# Altium schematic symbol library Custom_Component.SchLib: 280 symbols (part 1 of 2)
Pins are listed as number, name and electrical type; pins without a type are passive.

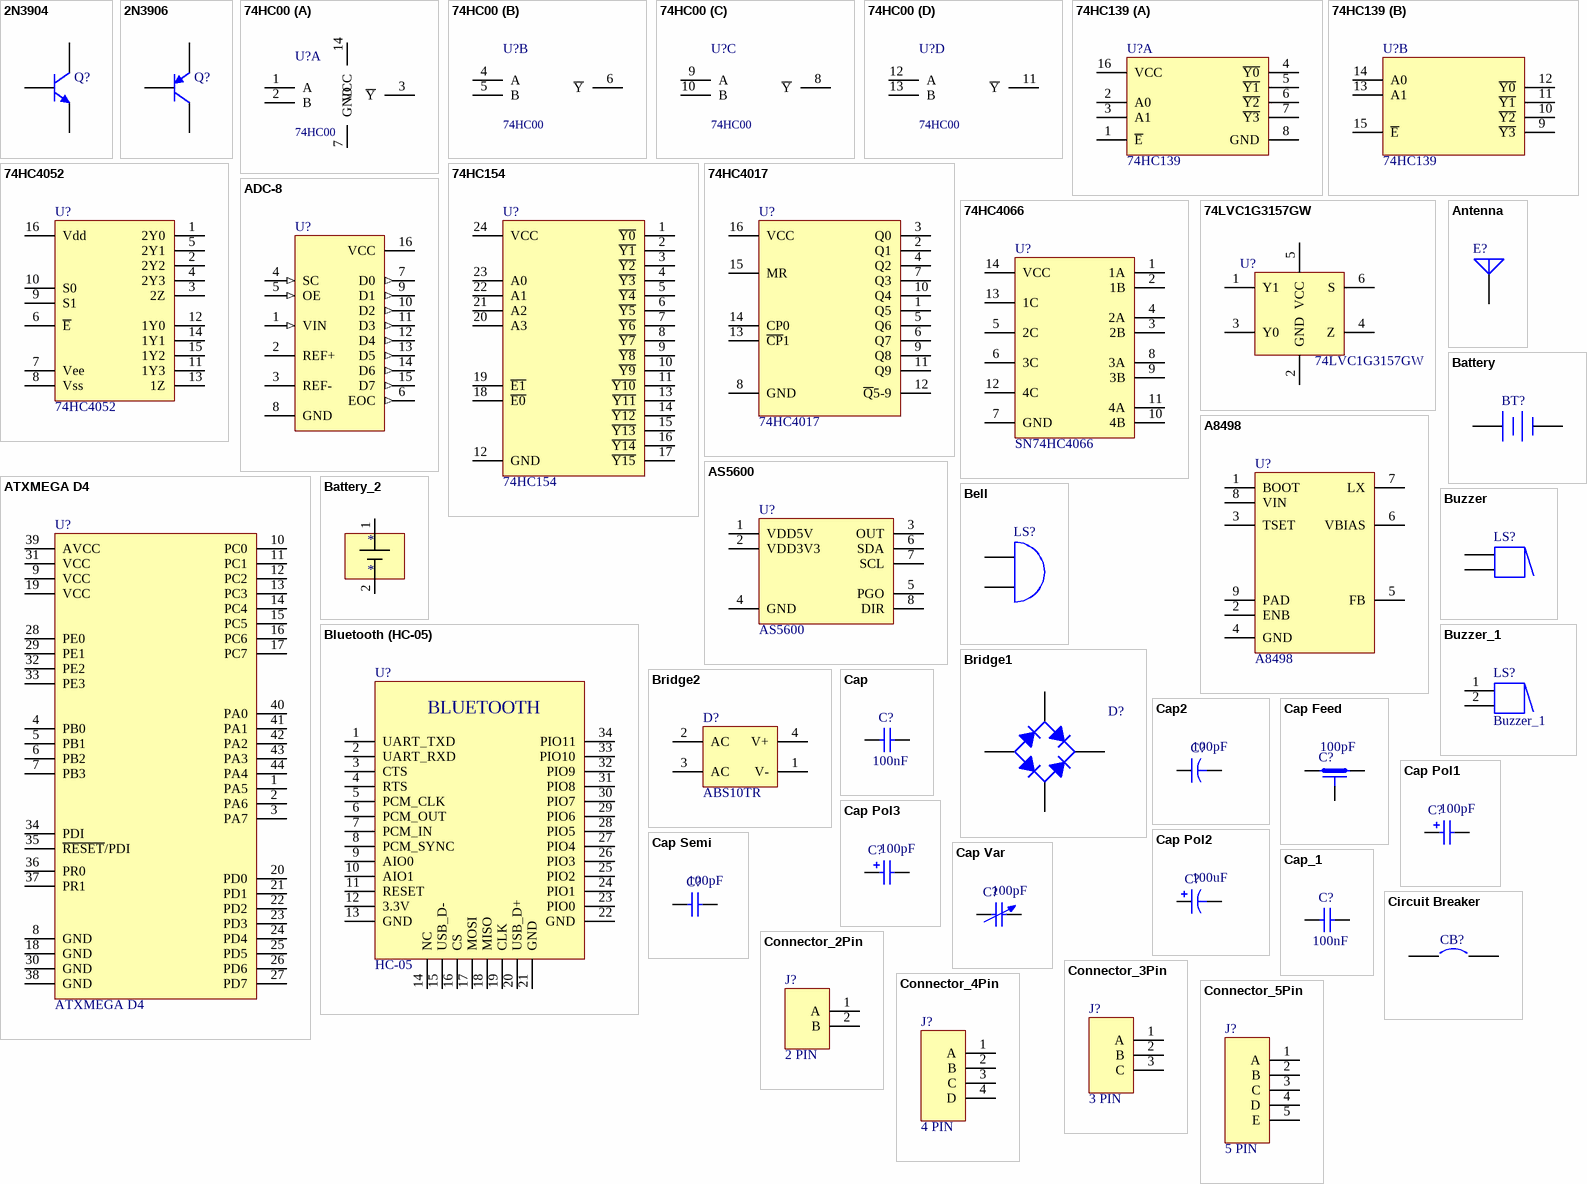
[diagram p0: symbols 2N3904 to Connector_5Pin]

## 2N3904
designator Q?
NPN General Purpose Amplifier; PackageReference: TO-92A; PackageDescription: TO, Flat Index; 3 In-Line, Axial Leads; Body Dia. 4.5mm; Leads 0.51 x 0.48 mm (max)
footprint TO-92A (TO, Flat Index; 3 In-Line, Axial Leads; Body Dia. 4.5mm; Leads 0.51 x 0.48 mm (max))
simulation model 2N3904 (NPN)
signal-integrity model 2N3904
footprint SOT23_N (SOT23, 3-Leads, Body 2.9x1.3mm, Pitch 0.95mm, Lead Span 2.3mm - Reverse Pinning, IPC Medium Density)
pins: 1 C, 2 E, 3 B

## 2N3906
designator Q?
PNP General Purpose Amplifier; PackageReference: TO-92A; PackageDescription: TO, Flat Index; 3 In-Line, Axial Leads; Body Dia. 4.5mm; Leads 0.51 x 0.48 mm (max)
footprint TO-92A (TO, Flat Index; 3 In-Line, Axial Leads; Body Dia. 4.5mm; Leads 0.51 x 0.48 mm (max))
simulation model 2N3906 (PNP)
signal-integrity model 2N3906
pins: 1 E, 2 B, 3 C

## 74HC00
designator U?
QUADRUPLE 2-INPUT POSITIVE-AND GATES
footprint SOIC14 (SOIC, 14-Leads, Body 8.75x4.0mm, Pitch 1.27mm, IPC Low Density)
part A pins: 1 A, 2 B, 3 ~{Y}, 7 GND, 14 VCC
part B pins: 4 A, 5 B, 6 ~{Y}
part C pins: 8 ~{Y}, 9 A, 10 B
part D pins: 11 ~{Y}, 12 A, 13 B

## 74HC139
designator U?
Dual 2-to-4 Decoder
footprint SOIC16 (SOIC, 16-Leads, Body 9.9x9.4mm, Pitch 1.27mm, IPC Low Density)
part A pins: 1 ~{E}, 2 A0, 3 A1, 4 ~{Y0}, 5 ~{Y1}, 6 ~{Y2}, 7 ~{Y3}, 8 GND, 16 VCC
part B pins: 9 ~{Y3}, 10 ~{Y2}, 11 ~{Y1}, 12 ~{Y0}, 13 A1, 14 A0, 15 ~{E}

## 74HC154
designator U?
4-to-16 Decoder
footprint SOIC24 (SOIC, 24-Leads, Pitch 1.27mm)
pins: 1 ~{Y0}, 2 ~{Y1}, 3 ~{Y2}, 4 ~{Y3}, 5 ~{Y4}, 6 ~{Y5}, 7 ~{Y6}, 8 ~{Y7}, 9 ~{Y8}, 10 ~{Y9}, 11 ~{Y10}, 12 GND, 13 ~{Y11}, 14 ~{Y12}, 15 ~{Y13}, 16 ~{Y14}, 17 ~{Y15}, 18 ~{E0}, 19 ~{E1}, 20 A3, 21 A2, 22 A1, 23 A0, 24 VCC

## 74HC4017
designator U?
Johnson decade counter
pins: 1 Q5, 2 Q1, 3 Q0, 4 Q2, 5 Q6, 6 Q7, 7 Q3, 8 GND, 9 Q8, 10 Q4, 11 Q9, 12 ~{Q}5-9, 13 ~{CP}1, 14 CP0, 15 MR, 16 VCC

## 74HC4052
designator U?
Analog switch
footprint TSSOP_16 (TSSOP_14)
pins: 1 2Y0, 2 2Y2, 3 2Z, 4 2Y3, 5 2Y1, 6 ~{E}, 7 Vee, 8 Vss, 9 S1, 10 S0, 11 1Y3, 12 1Y0, 13 1Z, 14 1Y1, 15 1Y2, 16 Vdd

## 74HC4066
designator U?, comment SN74HC4066
ComponentLink1Description: Digikey; ComponentLink1URL: https://www.digikey.ca/product-detail/en/texas-instruments/SN74HC4066PWR/296-8330-1-ND/376709; ComponentLink2Description: Datasheet; ComponentLink2URL: http://www.ti.com/lit/ds/symlink/sn74hc4066.pdf
footprint TSSOP_14
pins: 1 1A, 2 1B, 3 2B, 4 2A, 5 2C, 6 3C, 7 GND, 8 3A, 9 3B, 10 4B, 11 4A, 12 4C, 13 1C, 14 VCC

## 74LVC1G3157GW
designator U?
ComponentLink1Description: Digikey; ComponentLink1URL: https://www.digikey.ca/product-detail/en/nexperia-usa-inc/74LVC1G3157GW125/1727-6073-1-ND/2753909; ComponentLink2Description: Datasheet; ComponentLink2URL: https://assets.nexperia.com/documents/data-sheet/74LVC1G3157.pdf; Digikey Part Number: 1727-6073-1-ND
footprint SOT-363-6 (0.65 pitch SOT363-6)
pins: 1 Y1, 2 GND, 3 Y0, 4 Z, 5 VCC, 6 S

## A8498
designator U?
Step-down; ComponentLink1Description: Digikey; ComponentLink1URL: https://www.digikey.ca/product-detail/en/allegro-microsystems-llc/A8498SLJTR-T/620-1160-1-ND/1121721
footprint SOIC-8 (SOIC, 8-Leads, Body 4.9x3.9mm, Pitch 1.27mm, IPC Medium Density)
pins: 1 BOOT, 2 ENB, 3 TSET, 4 GND, 5 FB, 6 VBIAS, 7 LX, 8 VIN, 9 PAD

## ADC-8
designator U?
Generic 8-Bit A/D Converter; PackageReference: SOT403-1; PackageDescription: 16-Pin Thin Small Outline Package 0.65 mm Pitch
footprint SOT403-1_N (TSOP, 16-Leads, Body 5x4.4mm, Pitch 0.65mm, IPC Medium Density)
footprint SOT403-1_L (TSOP, 16-Leads, Body 5x4.4mm, Pitch 0.65mm, IPC High Density)
footprint SOT403-1_M (TSOP, 16-Leads, Body 5x4.4mm, Pitch 0.65mm, IPC Low Density)
simulation model ADC8 (SIMCODE)
pins: 1 VIN (in), 2 REF+, 3 REF-, 4 SC (in), 5 OE (in), 6 EOC (out), 7 D0 (out), 8 GND (power), 9 D1 (out), 10 D2 (out), 11 D3 (out), 12 D4 (out), 13 D5 (out), 14 D6 (out), 15 D7 (out), 16 VCC (power)

## Antenna
designator E?
Generic Antenna; PackageReference: PIN1
footprint PIN1 (Generic Antenna; 1 Lead)
pins: 1 A

## AS5600
designator U?
12-Bit Programmable Contactless / Potentiometer; ComponentLink1Description: Mouser; ComponentLink1URL: https://www.mouser.ca/ProductDetail/ams/AS5600-ASOT?qs=sGAEpiMZZMvhQj7WZhFIACpL9oTQ3HAxNjqXH1F5nKObiTda5GUQ9A%3d%3d; ComponentLink2Description: Datasheet; ComponentLink2URL: https://www.mouser.ca/datasheet/2/588/AS5600_DS000365_3-00-1100751.pdf
footprint SO8_N (SOIC, 8-Leads, Body 4.9x3.9mm, Pitch 1.27mm, IPC Medium Density)
pins: 1 VDD5V, 2 VDD3V3, 3 OUT, 4 GND, 5 PGO, 6 SDA, 7 SCL, 8 DIR

## ATXMEGA D4
designator U?
footprint TQFP-44-Lead (64-Lead Plastic Thin Quad Flatpack (PT)-10x10x1 mm Body, 2.00 mm Footprint [TQFP])
pins: 1 PA5, 2 PA6, 3 PA7, 4 PB0, 5 PB1, 6 PB2, 7 PB3, 8 GND, 9 VCC, 10 PC0, 11 PC1, 12 PC2, 13 PC3, 14 PC4, 15 PC5, 16 PC6, 17 PC7, 18 GND, 19 VCC, 20 PD0, 21 PD1, 22 PD2, 23 PD3, 24 PD4, 25 PD5, 26 PD6, 27 PD7, 28 PE0, 29 PE1, 30 GND, 31 VCC, 32 PE2, 33 PE3, 34 PDI, 35 ~{RESET}/PDI, 36 PR0, 37 PR1, 38 GND, 39 AVCC, 40 PA0, 41 PA1, 42 PA2, 43 PA3, 44 PA4

## Battery
designator BT?
Multicell Battery; PackageReference: BAT-2; PackageDescription: Battery; 2 Leads
footprint BAT-2 (Battery; 2 Leads)
pins: 1 +, 2 -

## Battery_2
designator *
footprint BATTERY (Battery; 2 Leads)
pins: 1 VBAT, 2 GND

## Bell
designator LS?
Electrical Bell; PackageReference: PIN2
footprint PIN2 (Electrical Bell; 2 Leads)
pins: 1 A, 2 B

## Bluetooth (HC-05)
designator U?, comment HC-05
footprint HC-05 (BLUETOOTH)
pins: 1 UART_TXD, 2 UART_RXD, 3 CTS, 4 RTS, 5 PCM_CLK, 6 PCM_OUT, 7 PCM_IN, 8 PCM_SYNC, 9 AIO0, 10 AIO1, 11 RESET, 12 3.3V (power), 13 GND (power), 14 NC, 15 USB_D-, 16 CS, 17 MOSI, 18 MISO, 19 CLK, 20 USB_D+, 21 GND (power), 22 GND (power), 23 PIO0, 24 PIO1, 25 PIO2, 26 PIO3, 27 PIO4, 28 PIO5, 29 PIO6, 30 PIO7, 31 PIO8, 32 PIO9, 33 PIO10, 34 PIO11
text: BLUETOOTH

## Bridge1
designator D?
Full Wave Diode Bridge; PackageReference: D-38; PackageDescription: Bridge Rectifier; 4 Terminals; Body 9.4 x 9.4 mm (typ); Pitch 5.08 mm
footprint D-38 (Bridge Rectifier; 4 Terminals; Body 9.4 x 9.4 mm (typ); Pitch 5.08 mm)
simulation model BRIDGE (Spice Subcircuit)
pins: 1 K, 2 C, 3 A, 4 C

## Bridge2
designator D?, comment ABS10TR
Diode Bridge; PackageReference: D-46_6A; PackageDescription: Bridge Rectifier; 4 Terminals; Body 16.8 x 16.8 mm (typ); Pitch 10.67 mm; ComponentLink1Description: ABS10TR - Digikey; ComponentLink1URL: https://www.digikey.ca/product-detail/en/smc-diode-solutions/ABS10TR/1655-1809-1-ND/7244837
simulation model BRIDGE (Spice Subcircuit)
footprint SOPA-4 (4-SMD Gull wing)
pins: 1 V-, 2 AC, 3 AC, 4 V+

## Buzzer
designator LS?
Magnetic Transducer Buzzer; PackageReference: ABSM-1574; PackageDescription: Magnetic Transducer Buzzer
footprint ABSM-1574 (Magnetic Transducer Buzzer)
pins: 1, 2

## Buzzer_1
designator LS?
Magnetic Transducer Buzzer; PackageReference: ABSM-1574; PackageDescription: Magnetic Transducer Buzzer
footprint BUZZER_6.6mm (Magnetic Transducer Buzzer)
footprint BUZZER_9mm (Magnetic Transducer Buzzer)
pins: 1, 2

## Cap
designator C?, comment 100nF
Capacitor; Value: 100pF; PackageReference: RAD-0.3; PackageDescription: Radial Cap, Thru-Hole; 2 Leads; 0.3 in Pin Spacing
footprint RAD-0.3 (Radial Cap, Thru-Hole; 2 Leads; 0.3 in Pin Spacing)
simulation model CAP (Capacitor)
signal-integrity model Cap
footprint C0603 (Chip Capacitor, Body 1.6x0.8mm, IPC High Density)
footprint C1206 (Chip Capacitor, Body 3.2x1.6mm, IPC High Density)
footprint C1210 (Chip Capacitor, Body 3.2x2.5mm, IPC High Density)
footprint C0805 (Chip Capacitor, Body 2.0x1.3mm, IPC High Density)
pins: 1, 2

## Cap2
designator C?  value 100pF
Capacitor; PackageReference: CAPR5-4X5; PackageDescription: Capacitor; 2 Leads
footprint CAPR5-4X5 (Capacitor; 2 Leads)
simulation model CAP (Capacitor)
signal-integrity model Cap
pins: 1, 2

## Cap Feed
designator C?  value 100pF
Feed-Through Capacitor; Note: Commonly used for bypassing high-frequency currents to chassis; PackageReference: VR4; PackageDescription: Variable Resistor, Thru-Hole; 3 Leads
footprint VR4 (Thru-Hole; 3 Leads)
signal-integrity model Cap Feed
pins: 1, 2, 3

## Cap Pol1
designator C?  value 100pF
Polarized Capacitor (Radial); PackageReference: RB7.6-15; PackageDescription: Polarized Capacitor (Radial); 2 Leads
footprint RB7.6-15 (Polarized Capacitor (Radial); 2 Leads)
simulation model CAP (Capacitor)
signal-integrity model Cap Pol
pins: 1, 2
1 alternate drawing of the same symbol

## Cap Pol2
designator C?  value 100uF
Polarized Capacitor (Axial); PackageReference: POLAR0.8; PackageDescription: Polarized Capacitor; 2 Leads
footprint POLAR0.8 (Polarized Capacitor; 2 Leads)
simulation model CAP (Capacitor)
signal-integrity model Cap Pol
footprint SMD_RAD-7.7*6.3 (Radial Cap, SMD; 2 Leads;)
footprint CAP_5.3x5.3 (Electrolytic capacitor 5.3mmx5.3mm)
pins: 1, 2
1 alternate drawing of the same symbol

## Cap Pol3
designator C?  value 100pF
Polarized Capacitor (Surface Mount); PackageReference: C0805; PackageDescription: Chip Capacitor
footprint C0805 (Chip Capacitor, Body 2.0x1.3mm, IPC High Density)
footprint 1812 (Chip Capacitor, Body 4.5x3.2mm, IPC High Density)
footprint 1825 (Chip Capacitor, Body 4.5x6.4mm, IPC High Density)
footprint C2225 (Chip Capacitor, Body 5.7x6.4mm, IPC High Density)
footprint 2220 (Chip Capacitor, Body 5.7x5.0mm, IPC High Density)
simulation model CAP (Capacitor)
signal-integrity model Cap Pol
pins: 1, 2
1 alternate drawing of the same symbol

## Cap Semi
designator C?  value 100pF
Capacitor (Semiconductor SIM Model); PackageReference: C1206; PackageDescription: Chip Capacitor
footprint C1206 (Chip Capacitor, Body 3.2x1.6mm, IPC High Density)
footprint 0402 (Chip Capacitor, Body 1.0x0.5mm, IPC High Density)
footprint C2512 (Chip Capacitor, Body 2.54x1.27mm, IPC High Density)
footprint 1608[0603] (Chip Capacitor, Body 1.6x0.8mm, IPC High Density)
footprint C1210 (Chip Capacitor, Body 3.2x2.5mm, IPC High Density)
simulation model CAP (Semiconductor Capacitor)
signal-integrity model Cap Semi
pins: 1, 2

## Cap Var
designator C?  value 100pF
Variable or Adjustable Capacitor; PackageReference: C1210; PackageDescription: Chip Capacitor 1210 Case Size
footprint C1210_N (Chip Capacitor, Body 3.2x2.5mm, IPC Medium Density)
footprint C1210_L (Chip Capacitor, Body 3.2x2.5mm, IPC High Density)
footprint C1210_M (Chip Capacitor, Body 3.2x2.5mm, IPC Low Density)
signal-integrity model Cap Var
pins: 1, 2

## Cap_1
designator C?, comment 100nF
Capacitor; Value: 100pF; PackageReference: RAD-0.3; PackageDescription: Radial Cap, Thru-Hole; 2 Leads; 0.3 in Pin Spacing
footprint RAD-0.3 (Radial Cap, Thru-Hole; 2 Leads; 0.3 in Pin Spacing)
simulation model CAP (Capacitor)
signal-integrity model Cap
footprint C0603 (Chip Capacitor, Body 1.6x0.8mm, IPC High Density)
footprint C1206 (Chip Capacitor, Body 3.2x1.6mm, IPC High Density)
footprint C1210 (Chip Capacitor, Body 3.2x2.5mm, IPC High Density)
footprint C0805 (Chip Capacitor, Body 2.0x1.3mm, IPC High Density)
pins: 1, 2

## Circuit Breaker
designator CB?
Circuit Breaker; PackageReference: SPST-2; PackageDescription: Switch; 2 Leads
footprint SPST-2 (Switch; 2 Leads)
pins: 1, 2

## Connector_2Pin
designator J?, comment 2 PIN
footprint JST_2_PIN
footprint Connector_2PIN_Hirose (CONN HEADER 2POS 2MM RT ANG TIN)
footprint Header 2_PIN (200 mils)
pins: 1 A, 2 B

## Connector_3Pin
designator J?, comment 3 PIN
footprint JST_3_PIN
footprint HDR1X3
footprint Connector_3PIN_Hirose (CONN HEADER 3POS 2MM RT ANG TIN)
footprint Connector 3 PIN (Screwless - Leg Spring, Push-In Spring)
pins: 1 A, 2 B, 3 C

## Connector_4Pin
designator J?, comment 4 PIN
footprint JST_4_PIN
footprint Connector_4pin (CONN HEADER 4POS COMPUTER POWER)
footprint Connector_4PIN_Hirose (CONN HEADER 4POS 2MM RT ANG TIN)
footprint Connector_4PIN_TE (CONN HEADER 4POS)
footprint Connector 4 PIN (Screwless - Leg Spring, Push-In Spring)
pins: 1 A, 2 B, 3 C, 4 D

## Connector_5Pin
designator J?, comment 5 PIN
Manufacturer: Molex Connector Corporation; Manufacturer Part Number: 43650-0503; Digikey Part Number: WM1873-ND; PackageDescription: Through Hole, Right Angle; PackageReference: 0.118" (3.00mm)
footprint Connector_5pin (CONN HEADER 5POS R/A W/CLIP TIN)
pins: 1 A, 2 B, 3 C, 4 D, 5 E

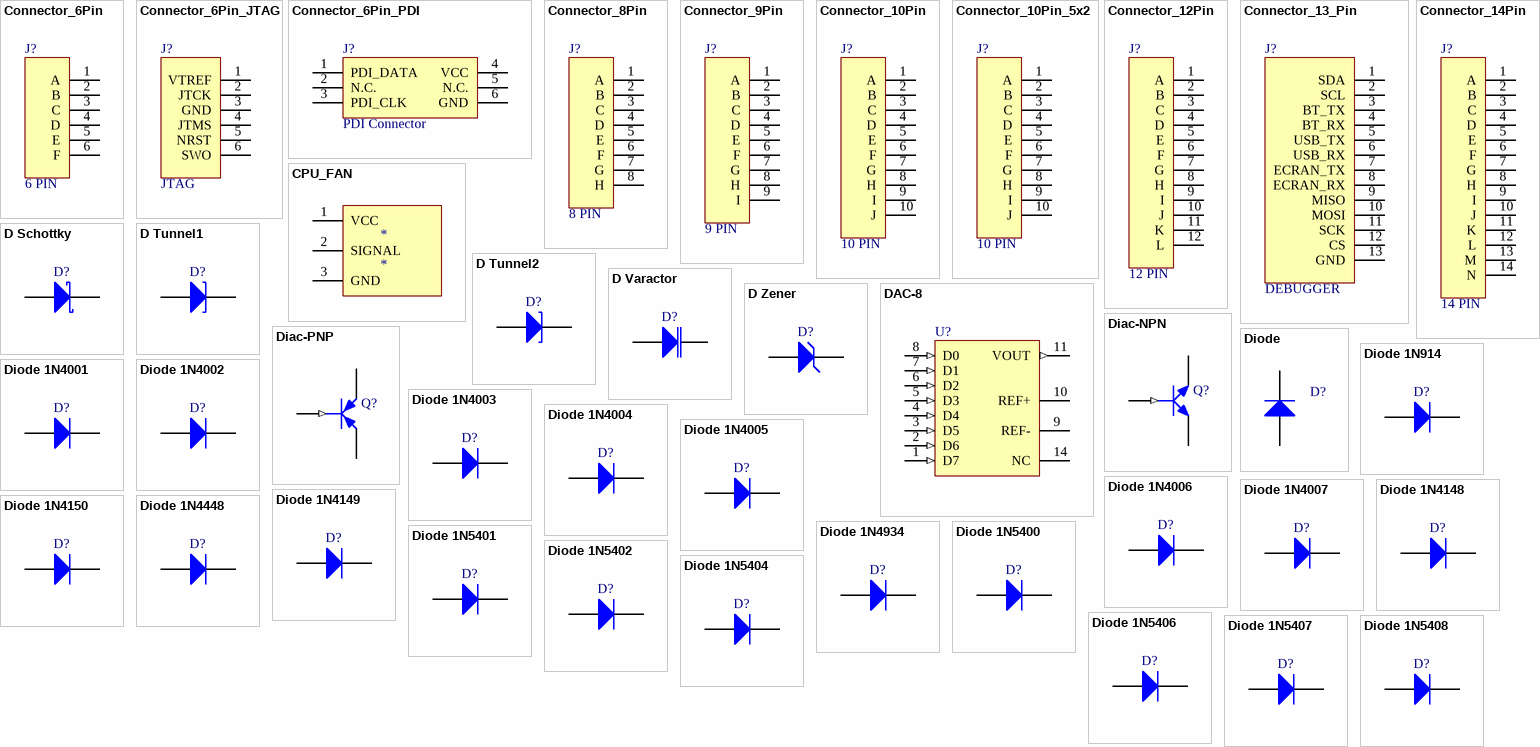
[diagram p1: symbols Connector_6Pin to Diode 1N5408]

## Connector_6Pin
designator J?, comment 6 PIN
footprint HDR1X6
footprint HDR2X3
pins: 1 A, 2 B, 3 C, 4 D, 5 E, 6 F

## Connector_6Pin_JTAG
designator J?, comment JTAG
footprint HDR1X6
pins: 1 VTREF, 2 JTCK, 3 GND, 4 JTMS, 5 NRST, 6 SWO

## Connector_6Pin_PDI
designator J?, comment PDI Connector
footprint HDR1X6
footprint HDR2X3
footprint CONNECTOR_6_PIN (POGO_PIN)
pins: 1 PDI_DATA, 2 N.C., 3 PDI_CLK, 4 VCC, 5 N.C., 6 GND

## Connector_8Pin
designator J?, comment 8 PIN
footprint Connector_8pin (CONN HEADER 18POS 2MM RT ANG TIN)
pins: 1 A, 2 B, 3 C, 4 D, 5 E, 6 F, 7 G, 8 H

## Connector_9Pin
designator J?, comment 9 PIN
footprint Connector_8pin (CONN HEADER 18POS 2MM RT ANG TIN)
pins: 1 A, 2 B, 3 C, 4 D, 5 E, 6 F, 7 G, 8 H, 9 I

## Connector_10Pin
designator J?, comment 10 PIN
CONN HEADER 10POS; Manufacturer: Hirose Electric Co Ltd; Manufacturer Part Number: DF11-10DP-2DS(24); Digikey Part Number: H10247-ND; PackageDescription: Through Hole, Right Angle; PackageReference: 0.079" (2.00mm)
footprint JST_10_PIN
pins: 1 A, 2 B, 3 C, 4 D, 5 E, 6 F, 7 G, 8 H, 9 I, 10 J

## Connector_10Pin_5x2
designator J?, comment 10 PIN
CONN HEADER 10POS 2MM RT ANG TIN; Manufacturer: Hirose Electric Co Ltd; Manufacturer Part Number: DF11-10DP-2DS(24); Digikey Part Number: H10247-ND; PackageDescription: Through Hole, Right Angle; PackageReference: 0.079" (2.00mm)
footprint Connector_10pin (CONN HEADER 10POS 2MM RT ANG TIN)
pins: 1 A, 2 B, 3 C, 4 D, 5 E, 6 F, 7 G, 8 H, 9 I, 10 J

## Connector_12Pin
designator J?, comment 12 PIN
footprint Connector_12pin (CONN HEADER 12POS 2MM RT ANG TIN)
footprint Connector_12pin_SMD (CONN HEADER 12POS 1.25mm)
pins: 1 A, 2 B, 3 C, 4 D, 5 E, 6 F, 7 G, 8 H, 9 I, 10 J, 11 K, 12 L

## Connector_13_Pin
designator J?, comment DEBUGGER
footprint Header_PIN13 (13 Leads header)
pins: 1 SDA, 2 SCL, 3 BT_TX, 4 BT_RX, 5 USB_TX, 6 USB_RX, 7 ECRAN_TX, 8 ECRAN_RX, 9 MISO, 10 MOSI, 11 SCK, 12 CS, 13 GND

## Connector_14Pin
designator J?, comment 14 PIN
pins: 1 A, 2 B, 3 C, 4 D, 5 E, 6 F, 7 G, 8 H, 9 I, 10 J, 11 K, 12 L, 13 M, 14 N

## CPU_FAN
designator *
footprint JST_3_PIN
pins: 1 VCC (power), 2 SIGNAL, 3 GND (power)

## D Schottky
designator D?
Schottky Diode; PackageReference: SMB; PackageDescription: DO-214-AA/SMB; 2 C-Bend Leads; Body 5.3 x 3.6 mm, inc. leads (LxW)
footprint SMB (DO-214-AA/SMB; 2 C-Bend Leads; Body 5.3 x 3.6 mm, inc. leads (LxW))
simulation model SKYDIODE (Diode)
signal-integrity model D Schottky
pins: 1 A, 2 K

## D Tunnel1
designator D?
Tunnel Diode - RLC Model; PackageReference: 3.2X1.6X1.1; PackageDescription: SM LED; 2 Flat Leads
footprint 3.2X1.6X1.1 (SMT LED; 2 Flat Leads)
simulation model DTUNNEL1 (Spice Subcircuit)
signal-integrity model D Tunnel
pins: 1 A, 2 K

## D Tunnel2
designator D?
Tunnel Diode - Dependent Source Model; PackageReference: DIODE-0.4; PackageDescription: Diode, Thru-Hole; 2 Leads; 0.4 in Pin Spacing
footprint DIODE-0.4 (Diode, Thru-Hole; 2 Leads; 0.4 in Pin Spacing)
simulation model DTUNNEL2 (Spice Subcircuit)
signal-integrity model D Tunnel
pins: 1 A, 2 K

## D Varactor
designator D?
Variable Capacitance Diode; Note: Pin 2 is not connected and not drawn.; PackageReference: SOT23A; PackageDescription: 3-Pin SOT-23 Package 0.95 mm Pitch, 2.3 mm Lead Span - Reverse Pinning
footprint SOT23_N (SOT23, 3-Leads, Body 2.9x1.3mm, Pitch 0.95mm, Lead Span 2.3mm - Reverse Pinning, IPC Medium Density)
footprint SOT23_L (SOT23, 3-Leads, Body 2.9x1.3mm, Pitch 0.95mm, Lead Span 2.3mm - Reverse Pinning, IPC High Density)
footprint SOT23_M (SOT23, 3-Leads, Body 2.9x1.3mm, Pitch 0.95mm, Lead Span 2.3mm - Reverse Pinning, IPC Low Density)
simulation model BBY31 (Diode)
signal-integrity model D Varactor
pins: 1 K, 3 A

## D Zener
designator D?
Zener Diode; PackageReference: DIODE-0.7; PackageDescription: Diode, Thru-Hole; 2 Leads; 0.7 in Pin Spacing
footprint DIODE-0.7 (Diode, Thru-Hole; 2 Leads; 0.7 in Pin Spacing)
simulation model ZENER (Diode)
signal-integrity model D Zener
footprint SOD-123FL
pins: 1 A, 2 K

## DAC-8
designator U?
Generic 8-Bit D/A Converter; PackageReference: SOT402-1; PackageDescription: 14-Pin Thin Small Outline Package 0.65 mm Pitch
footprint SOT402-1_N (TSOP, 14-Leads, Body 5x4.4mm, Pitch 0.65mm, IPC Medium Density)
footprint SOT402-1_L (TSOP, 14-Leads, Body 5x4.4mm, Pitch 0.65mm, IPC High Density)
footprint SOT402-1_M (TSOP, 14-Leads, Body 5x4.4mm, Pitch 0.65mm, IPC Low Density)
simulation model DAC8 (SIMCODE)
pins: 1 D7 (in), 2 D6 (in), 3 D5 (in), 4 D4 (in), 5 D3 (in), 6 D2 (in), 7 D1 (in), 8 D0 (in), 9 REF-, 10 REF+, 11 VOUT (out), 12 GND (power) hidden to GND, 13 VCC (power) hidden to VCC, 14 NC

## Diac-NPN
designator Q?
DIAC; PackageReference: TO-262-AA
footprint TO-262-AA (TO, Thru-Hole, Vertical, Heatsink Mounted; 3 In-Line Leads; Pitch 2.54 mm)
pins: 1 B (in), 2 C, 3 E

## Diac-PNP
designator Q?
DIAC; PackageReference: SOT89; PackageDescription: 3-Pin SOT-89 Package 1.5 mm Pitch, 4.1 mm Lead Span
footprint SOT89M (SOT89, 3-Leads, Body 4.5x2.4 mm, Pitch 1.5mm, Lead Span 4.1mm, IPC Low Density)
footprint SOT89N (SOT89, 3-Leads, Body 4.5x2.4 mm, Pitch 1.5mm, Lead Span 4.1mm, IPC Medium Density)
footprint SOT89L (SOT89, 3-Leads, Body 4.5x2.4 mm, Pitch 1.5mm, Lead Span 4.1mm, IPC High Density)
pins: 1 B (in), 2 E, 3 C

## Diode
designator D?
Default Diode; Manufacturer Part Number: S1GTR; Value: S1GTR; PackageReference: SMA; PackageDescription: DO-214AC, SMA; Digikey Part Number: 1655-1504-1-ND
footprint SMC (DO-214-AB/SMC; 2 C-Bend Leads; Body 7.9 x 5.9 mm, inc. leads (LxW))
simulation model DIODE (Diode)
signal-integrity model Diode
footprint SMA (DO-214-AA/SMB; 2 C-Bend Leads; Body 5.3 x 3.6 mm, inc. leads (LxW))
pins: 1 A, 2 K

## Diode 1N914
designator D?
High Conductance Fast Diode; PackageReference: DO-35; PackageDescription: Diode, Axial; Body 3.8 x 1.9 mm (LxDia. max), Lead Dia. 0.53 mm (max)
footprint DO-35 (Diode, Axial; Body 3.8 x 1.9 mm (LxDia. max), Lead Dia. 0.53 mm (max))
simulation model 1N914 (DIODE)
signal-integrity model 1N914
pins: 1 A, 2 K

## Diode 1N4001
designator D?
1 Amp General Purpose Rectifier; PackageReference: DO-41; PackageDescription: Diode, Axial; Body 5.2 x 2.7 mm (LxDia. max), Lead Dia. 0.86 mm (max)
footprint DO-41 (Diode, Axial; Body 5.2 x 2.7 mm (LxDia. max), Lead Dia. 0.86 mm (max))
simulation model 1N4001 (DIODE)
signal-integrity model 1N4001
pins: 1 A, 2 K

## Diode 1N4002
designator D?
1 Amp General Purpose Rectifier; PackageReference: DO-41; PackageDescription: Diode, Axial; Body 5.2 x 2.7 mm (LxDia. max), Lead Dia. 0.86 mm (max)
footprint DO-41 (Diode, Axial; Body 5.2 x 2.7 mm (LxDia. max), Lead Dia. 0.86 mm (max))
simulation model 1N4002 (DIODE)
signal-integrity model 1N4002
pins: 1 A, 2 K

## Diode 1N4003
designator D?
1 Amp General Purpose Rectifier; PackageReference: DO-41; PackageDescription: Diode, Axial; Body 5.2 x 2.7 mm (LxDia. max), Lead Dia. 0.86 mm (max)
footprint DO-41 (Diode, Axial; Body 5.2 x 2.7 mm (LxDia. max), Lead Dia. 0.86 mm (max))
simulation model 1N4003 (DIODE)
signal-integrity model 1N4003
pins: 1 A, 2 K

## Diode 1N4004
designator D?
1 Amp General Purpose Rectifier; PackageReference: DO-41; PackageDescription: Diode, Axial; Body 5.2 x 2.7 mm (LxDia. max), Lead Dia. 0.86 mm (max)
footprint DO-41 (Diode, Axial; Body 5.2 x 2.7 mm (LxDia. max), Lead Dia. 0.86 mm (max))
simulation model 1N4004 (DIODE)
signal-integrity model 1N4004
pins: 1 A, 2 K

## Diode 1N4005
designator D?
1 Amp General Purpose Rectifier; PackageReference: DO-41; PackageDescription: Diode, Axial; Body 5.2 x 2.7 mm (LxDia. max), Lead Dia. 0.86 mm (max)
footprint DO-41 (Diode, Axial; Body 5.2 x 2.7 mm (LxDia. max), Lead Dia. 0.86 mm (max))
simulation model 1N4005 (DIODE)
signal-integrity model 1N4005
pins: 1 A, 2 K

## Diode 1N4006
designator D?
1 Amp General Purpose Rectifier; PackageReference: DO-41; PackageDescription: Diode, Axial; Body 5.2 x 2.7 mm (LxDia. max), Lead Dia. 0.86 mm (max)
footprint DO-41 (Diode, Axial; Body 5.2 x 2.7 mm (LxDia. max), Lead Dia. 0.86 mm (max))
simulation model 1N4006 (DIODE)
signal-integrity model 1N4006
pins: 1 A, 2 K

## Diode 1N4007
designator D?
1 Amp General Purpose Rectifier; PackageReference: DO-41; PackageDescription: Diode, Axial; Body 5.2 x 2.7 mm (LxDia. max), Lead Dia. 0.86 mm (max)
footprint DO-41 (Diode, Axial; Body 5.2 x 2.7 mm (LxDia. max), Lead Dia. 0.86 mm (max))
simulation model 1N4007 (DIODE)
signal-integrity model 1N4007
pins: 1 A, 2 K

## Diode 1N4148
designator D?
High Conductance Fast Diode; PackageReference: DO-35; PackageDescription: Diode, Axial; Body 3.8 x 1.9 mm (LxDia. max), Lead Dia. 0.53 mm (max)
footprint DO-35 (Diode, Axial; Body 3.8 x 1.9 mm (LxDia. max), Lead Dia. 0.53 mm (max))
simulation model 1N4148 (DIODE)
signal-integrity model 1N4148
pins: 1 A, 2 K

## Diode 1N4149
designator D?
Computer Diode; PackageReference: DO-35A; PackageDescription: Diode, Axial; Body 4.6 x 1.9 mm (LxDia. max), Lead Dia. 0.53 mm (max)
footprint DO-35A (Diode, Axial; Body 4.6 x 1.9 mm (LxDia. max), Lead Dia. 0.53 mm (max))
simulation model 1N4149 (DIODE)
pins: 1 A, 2 K

## Diode 1N4150
designator D?
High Conductance Ultra Fast Diode; PackageReference: DO-35; PackageDescription: Diode, Axial; Body 3.8 x 1.9 mm (LxDia. max), Lead Dia. 0.53 mm (max)
footprint DO-35 (Diode, Axial; Body 3.8 x 1.9 mm (LxDia. max), Lead Dia. 0.53 mm (max))
simulation model 1N4150 (DIODE)
signal-integrity model 1N4150
pins: 1 A, 2 K

## Diode 1N4448
designator D?
High Conductance Fast Diode; PackageReference: DO-35; PackageDescription: Diode, Axial; Body 3.8 x 1.9 mm (LxDia. max), Lead Dia. 0.53 mm (max)
footprint DO-35 (Diode, Axial; Body 3.8 x 1.9 mm (LxDia. max), Lead Dia. 0.53 mm (max))
simulation model 1N4448 (DIODE)
signal-integrity model 1N4448
pins: 1 A, 2 K

## Diode 1N4934
designator D?
1 Amp Fast Recovery Rectifier; PackageReference: DO-41; PackageDescription: Diode, Axial; Body 5.2 x 2.7 mm (LxDia. max), Lead Dia. 0.86 mm (max)
footprint DO-41 (Diode, Axial; Body 5.2 x 2.7 mm (LxDia. max), Lead Dia. 0.86 mm (max))
simulation model 1N4934 (DIODE)
signal-integrity model 1N4934
pins: 1 A, 2 K

## Diode 1N5400
designator D?
3 Amp General Purpose Rectifier; PackageReference: DO-201AD; PackageDescription: Diode, Axial; Body 9.5 x 5.6 mm (LxDia. max), Lead Dia. 1.32 mm (max)
footprint DO-201AD (Diode, Axial; Body 9.5 x 5.6 mm (LxDia. max), Lead Dia. 1.32 mm (max))
simulation model 1N5400 (DIODE)
signal-integrity model 1N5400
pins: 1 A, 2 K

## Diode 1N5401
designator D?
3 Amp General Purpose Rectifier; PackageReference: DO-201AD; PackageDescription: Diode, Axial; Body 9.5 x 5.6 mm (LxDia. max), Lead Dia. 1.32 mm (max)
footprint DO-201AD (Diode, Axial; Body 9.5 x 5.6 mm (LxDia. max), Lead Dia. 1.32 mm (max))
simulation model 1N5401 (DIODE)
signal-integrity model 1N5401
pins: 1 A, 2 K

## Diode 1N5402
designator D?
3 Amp General Purpose Rectifier; PackageReference: DO-201AD; PackageDescription: Diode, Axial; Body 9.5 x 5.6 mm (LxDia. max), Lead Dia. 1.32 mm (max)
footprint DO-201AD (Diode, Axial; Body 9.5 x 5.6 mm (LxDia. max), Lead Dia. 1.32 mm (max))
simulation model 1N5402 (DIODE)
signal-integrity model 1N5402
pins: 1 A, 2 K

## Diode 1N5404
designator D?
3 Amp General Purpose Rectifier; PackageReference: DO-201AD; PackageDescription: Diode, Axial; Body 9.5 x 5.6 mm (LxDia. max), Lead Dia. 1.32 mm (max)
footprint DO-201AD (Diode, Axial; Body 9.5 x 5.6 mm (LxDia. max), Lead Dia. 1.32 mm (max))
simulation model 1N5404 (DIODE)
signal-integrity model 1N5404
pins: 1 A, 2 K

## Diode 1N5406
designator D?
3 Amp General Purpose Rectifier; PackageReference: DO-201AD; PackageDescription: Diode, Axial; Body 9.5 x 5.6 mm (LxDia. max), Lead Dia. 1.32 mm (max)
footprint DO-201AD (Diode, Axial; Body 9.5 x 5.6 mm (LxDia. max), Lead Dia. 1.32 mm (max))
simulation model 1N5406 (DIODE)
signal-integrity model 1N5406
pins: 1 A, 2 K

## Diode 1N5407
designator D?
3 Amp Medium Power Silicon Rectifier Diode; PackageReference: DO-201AD; PackageDescription: Diode, Axial; Body 9.5 x 5.3 mm (LxDia. max), Lead Dia. 1.32 mm (max)
footprint DO-201AD (Diode, Axial; Body 9.5 x 5.3 mm (LxDia. max), Lead Dia. 1.32 mm (max))
simulation model 1N5407 (DIODE)
signal-integrity model 1N5407
pins: 1 A, 2 K

## Diode 1N5408
designator D?
3 Amp Medium Power Silicon Rectifier Diode; PackageReference: DO-201AD; PackageDescription: Diode, Axial; Body 9.5 x 5.3 mm (LxDia. max), Lead Dia. 1.32 mm (max)
footprint DO-201AD (Diode, Axial; Body 9.5 x 5.3 mm (LxDia. max), Lead Dia. 1.32 mm (max))
simulation model 1N5408 (DIODE)
signal-integrity model 1N5408
pins: 1 A, 2 K

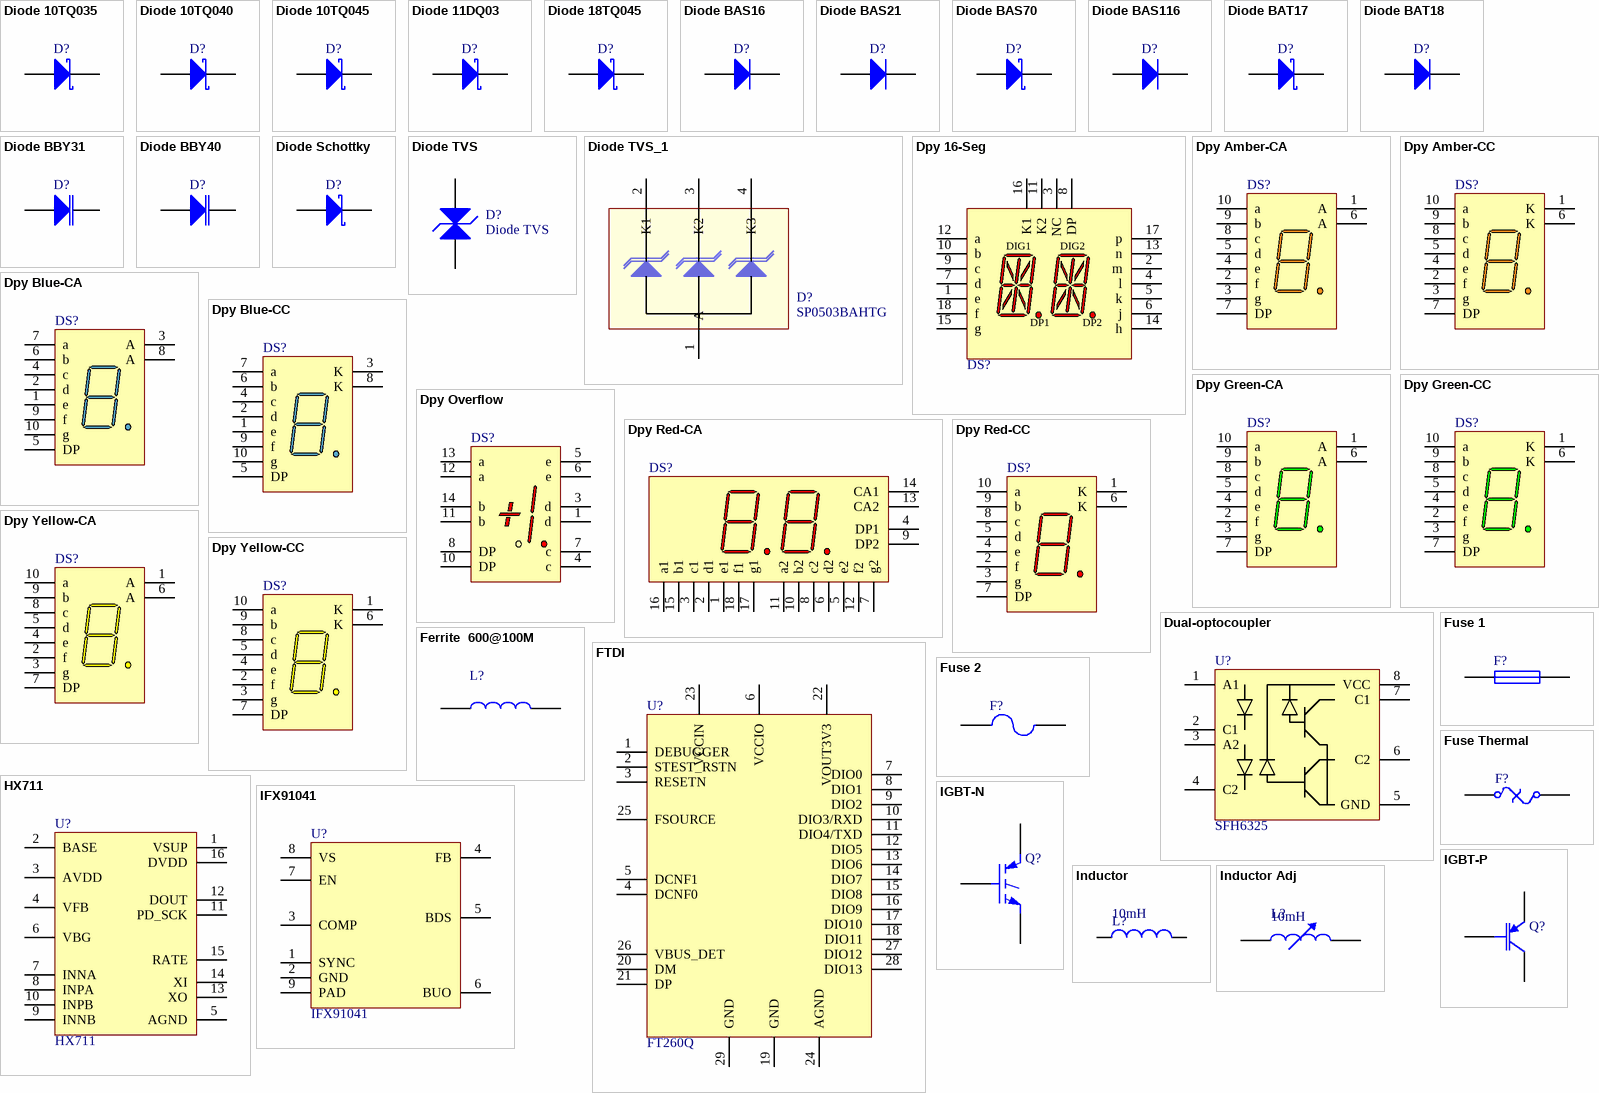
[diagram p2: symbols Diode 10TQ035 to Inductor Adj]

## Diode 10TQ035
designator D?
Schottky Rectifier; Note: Terminal 2 is the TAB and is electrically connected to the cathode; PackageReference: TO-220AC; PackageDescription: TO, Thru-Hole, Vertical, Heatsink Mounted; 3 In-Line Leads (1 Absent); Pitch 2.54 mm
footprint TO-220AC (TO, Thru-Hole, Vertical, Heatsink Mounted; 3 In-Line Leads (1 Absent); Pitch 2.54 mm)
simulation model 10TQ035 (DIODE)
pins: 1 K, 3 A

## Diode 10TQ040
designator D?
Schottky Rectifier; Note: Terminal 2 is the TAB and is electrically connected to the cathode; PackageReference: TO-220AC; PackageDescription: TO, Thru-Hole, Vertical, Heatsink Mounted; 3 In-Line Leads (1 Absent); Pitch 2.54 mm
footprint TO-220AC (TO, Thru-Hole, Vertical, Heatsink Mounted; 3 In-Line Leads (1 Absent); Pitch 2.54 mm)
simulation model 10TQ040 (DIODE)
pins: 1 K, 3 A

## Diode 10TQ045
designator D?
Schottky Rectifier; Note: Terminal 2 is the TAB and is electrically connected to the cathode; PackageReference: TO-220AC; PackageDescription: TO, Thru-Hole, Vertical, Heatsink Mounted; 3 In-Line Leads (1 Absent); Pitch 2.54 mm
footprint TO-220AC (TO, Thru-Hole, Vertical, Heatsink Mounted; 3 In-Line Leads (1 Absent); Pitch 2.54 mm)
simulation model 10TQ045 (DIODE)
pins: 1 K, 3 A

## Diode 11DQ03
designator D?
Schottky Rectifier; PackageReference: DO-204AL; PackageDescription: Diode, Axial; Body 5.2 x 2.7 mm (LxDia. max), Lead Dia. 0.86 mm (max)
footprint DO-204AL (Diode, Axial; Body 5.2 x 2.7 mm (LxDia. max), Lead Dia. 0.86 mm (max))
simulation model 11DQ03 (DIODE)
pins: 1 A, 2 K

## Diode 18TQ045
designator D?
Schottky Rectifier; Note: Terminal 2 is the TAB and is electrically connected to the cathode; PackageReference: TO-220AC; PackageDescription: TO, Thru-Hole, Vertical, Heatsink Mounted; 3 In-Line Leads (1 Absent); Pitch 2.54 mm
footprint TO-220AC (TO, Thru-Hole, Vertical, Heatsink Mounted; 3 In-Line Leads (1 Absent); Pitch 2.54 mm)
simulation model 18TQ045 (DIODE)
pins: 1 K, 3 A

## Diode BAS16
designator D?
Silicon Switching Diode for High-Speed Switching; Note: Pin 2 is not connected and not drawn.; PackageReference: SOT-23; PackageDescription: 3-Pin SOT-23 Package 0.95 mm Pitch, 2.5 mm Lead Span
footprint SOT-23_N (SOT23, 3-Leads, Body 2.9x1.3mm, Pitch 0.95mm, Lead Span 2.5mm, IPC Medium Density)
footprint SOT-23_L (SOT23, 3-Leads, Body 2.9x1.3mm, Pitch 0.95mm, Lead Span 2.5mm, IPC High Density)
footprint SOT-23_M (SOT23, 3-Leads, Body 2.9x1.3mm, Pitch 0.95mm, Lead Span 2.5mm, IPC Low Density)
simulation model BAS16 (SUBCKT)
pins: 1 A, 3 K

## Diode BAS21
designator D?
Silicon Switching Diode for High-Speed, High-Voltage Switching; Note: Pin 2 is not connected and not drawn.; PackageReference: SOT-23; PackageDescription: 3-Pin SOT-23 Package 0.95 mm Pitch, 2.5 mm Lead Span
footprint SOT-23_L (SOT23, 3-Leads, Body 2.9x1.3mm, Pitch 0.95mm, Lead Span 2.5mm, IPC High Density)
footprint SOT-23_M (SOT23, 3-Leads, Body 2.9x1.3mm, Pitch 0.95mm, Lead Span 2.5mm, IPC Low Density)
simulation model BAS21 (DIODE)
footprint SOT23_N_DIODE (SOT23, 3-Leads, Body 2.9x1.3mm, Pitch 0.95mm, Lead Span 2.3mm - Reverse Pinning, IPC Medium Density)
pins: 1 A, 3 K

## Diode BAS70
designator D?
Silicon AF Schottky Diode for High-Speed Switching; Note: Pin 2 is not connected and not drawn.; PackageReference: SOT-23; PackageDescription: 3-Pin SOT-23 Package 0.95 mm Pitch, 2.5 mm Lead Span
footprint SOT-23_N (SOT23, 3-Leads, Body 2.9x1.3mm, Pitch 0.95mm, Lead Span 2.5mm, IPC Medium Density)
footprint SOT-23_L (SOT23, 3-Leads, Body 2.9x1.3mm, Pitch 0.95mm, Lead Span 2.5mm, IPC High Density)
footprint SOT-23_M (SOT23, 3-Leads, Body 2.9x1.3mm, Pitch 0.95mm, Lead Span 2.5mm, IPC Low Density)
simulation model BAS70 (DIODE)
pins: 1 A, 3 K

## Diode BAS116
designator D?
Silicon Low Leakage Diode; Note: Pin 2 is not connected and not drawn.; PackageReference: SOT-23; PackageDescription: 3-Pin SOT-23 Package 0.95 mm Pitch, 2.5 mm Lead Span
footprint SOT-23_N (SOT23, 3-Leads, Body 2.9x1.3mm, Pitch 0.95mm, Lead Span 2.5mm, IPC Medium Density)
footprint SOT-23_L (SOT23, 3-Leads, Body 2.9x1.3mm, Pitch 0.95mm, Lead Span 2.5mm, IPC High Density)
footprint SOT-23_M (SOT23, 3-Leads, Body 2.9x1.3mm, Pitch 0.95mm, Lead Span 2.5mm, IPC Low Density)
simulation model BAS116 (DIODE)
pins: 1 A, 3 K

## Diode BAT17
designator D?
Silicon RF Schottky Diode for Mixer Applications in the VHF/UHF Range; Note: Pin 2 is not connected and not drawn.; PackageReference: SOT-23; PackageDescription: 3-Pin SOT-23 Package 0.95 mm Pitch, 2.5 mm Lead Span
footprint SOT-23_N (SOT23, 3-Leads, Body 2.9x1.3mm, Pitch 0.95mm, Lead Span 2.5mm, IPC Medium Density)
footprint SOT-23_L (SOT23, 3-Leads, Body 2.9x1.3mm, Pitch 0.95mm, Lead Span 2.5mm, IPC High Density)
footprint SOT-23_M (SOT23, 3-Leads, Body 2.9x1.3mm, Pitch 0.95mm, Lead Span 2.5mm, IPC Low Density)
simulation model D188 (DIODE)
pins: 1 A, 3 K

## Diode BAT18
designator D?
Low-Loss RF Switching Diode; Note: Pin 2 is not connected and not drawn.; PackageReference: SOT-23; PackageDescription: 3-Pin SOT-23 Package 0.95 mm Pitch, 2.5 mm Lead Span
footprint SOT-23_N (SOT23, 3-Leads, Body 2.9x1.3mm, Pitch 0.95mm, Lead Span 2.5mm, IPC Medium Density)
footprint SOT-23_L (SOT23, 3-Leads, Body 2.9x1.3mm, Pitch 0.95mm, Lead Span 2.5mm, IPC High Density)
footprint SOT-23_M (SOT23, 3-Leads, Body 2.9x1.3mm, Pitch 0.95mm, Lead Span 2.5mm, IPC Low Density)
simulation model BAT18 (DIODE)
pins: 1 A, 3 K

## Diode BBY31
designator D?
SOT23 Silicon Planar Variable Capacitance Diode; Note: Pin 2 is not connected and not drawn.; PackageReference: SOT23; PackageDescription: 3-Pin SOT-23 Package 0.95 mm Pitch, 2.3 mm Lead Span - Reverse Pinning
footprint SOT23_N (SOT23, 3-Leads, Body 2.9x1.3mm, Pitch 0.95mm, Lead Span 2.3mm - Reverse Pinning, IPC Medium Density)
footprint SOT23_L (SOT23, 3-Leads, Body 2.9x1.3mm, Pitch 0.95mm, Lead Span 2.3mm - Reverse Pinning, IPC High Density)
footprint SOT23_M (SOT23, 3-Leads, Body 2.9x1.3mm, Pitch 0.95mm, Lead Span 2.3mm - Reverse Pinning, IPC Low Density)
simulation model BBY31 (DIODE)
pins: 1 K, 3 A

## Diode BBY40
designator D?
SOT23 Silicon Planar Variable Capacitance Diode; Note: Pin 2 is not connected and not drawn.; PackageReference: SOT23; PackageDescription: 3-Pin SOT-23 Package 0.95 mm Pitch, 2.3 mm Lead Span - Reverse Pinning
footprint SOT23_N (SOT23, 3-Leads, Body 2.9x1.3mm, Pitch 0.95mm, Lead Span 2.3mm - Reverse Pinning, IPC Medium Density)
footprint SOT23_L (SOT23, 3-Leads, Body 2.9x1.3mm, Pitch 0.95mm, Lead Span 2.3mm - Reverse Pinning, IPC High Density)
footprint SOT23_M (SOT23, 3-Leads, Body 2.9x1.3mm, Pitch 0.95mm, Lead Span 2.3mm - Reverse Pinning, IPC Low Density)
simulation model BBY40 (DIODE)
pins: 1 K, 3 A

## Diode Schottky
designator D?
Schottky Rectifier; Note: Terminal 2 is the TAB and is electrically connected to the cathode; PackageReference: TO-220AC; PackageDescription: TO, Thru-Hole, Vertical, Heatsink Mounted; 3 In-Line Leads (1 Absent); Pitch 2.54 mm
footprint TO-220AC (TO, Thru-Hole, Vertical, Heatsink Mounted; 3 In-Line Leads (1 Absent); Pitch 2.54 mm)
simulation model 10TQ035 (DIODE)
footprint SOT23_N_DIODE (SOT23, 3-Leads, Body 2.9x1.3mm, Pitch 0.95mm, Lead Span 2.3mm - Reverse Pinning, IPC Medium Density)
footprint SOD-523
pins: 1 K, 2 A

## Diode TVS
designator D?
Default Diode; PackageReference: SMC; PackageDescription: DO-214-AB/SMC; 2 C-Bend Leads; Body 7.9 x 5.9 mm, inc. leads (LxW)
simulation model DIODE (Diode)
signal-integrity model Diode
footprint X1SON (SMT TVS X1SON)
pins: 1 A, 2 K

## Diode TVS_1
designator D?, comment SP0503BAHTG
PackageReference: SMC; PackageDescription: DO-214-AB/SMC; 2 C-Bend Leads; Body 7.9 x 5.9 mm, inc. leads (LxW)
simulation model DIODE (Diode)
signal-integrity model Diode
footprint SOT-143_N (SOT143, 4-Leads, Body 2.9x1.3mm, Pitch 1.9mm, Lead Span 2.5mm, IPC Medium Density)
pins: 1 A, 2 K1, 3 K2, 4 K3

## Dpy 16-Seg
designator DS?
13.7 mm Gray Surface As AlInGaP Red Alphanumeric Display: 2-Character, CC; PackageReference: HDSP-A2; PackageDescription: LED, Alphanumeric Display, 13.8 mm, Dual Character; 18 Leads; Row Space 15.24 mm; Pitch 2.54 mm
footprint HDSP-A2 (LED, Alphanumeric Display, 13.8 mm, Dual Character; 18 Leads; Row Space 15.24 mm; Pitch 2.54 mm)
simulation model HDSP_A27C (SUBCKT)
pins: 1 e "Digits (1&2) e Anode", 2 m "Digits (1&2) m Anode", 3 NC "No Connect", 4 l "Digits (1&2) l Anode", 5 k "Digits (1&2) k Anode", 6 j "Digits (1&2) j Anode", 7 d "Digits (1&2) d Anode", 8 DP "Digit 1&2 DP Anode", 9 c "Digits (1&2) c Anode", 10 b "Digits (1&2) b Anode", 11 K2 "Digit 2 Common Cathode", 12 a "Digits (1&2) a Anode", 13 n "Digits (1&2) n Anode", 14 h "Digits (1&2) h Anode", 15 g "Digits (1&2) g Anode", 16 K1 "Digit 1 Common Cathode", 17 p "Digits (1&2) p Anode", 18 f "Digits (1&2) f Anode"
text: DIG1; DIG2; DP1; DP2

## Dpy Amber-CA
designator DS?
7.62 mm Black Surface Orange 7-Segment Display: CA, RH DP; Note: IF = 5 mA; Note: Pins 1 and 6 are redundant Anodes.; PackageReference: A; PackageDescription: LED, 7-Segment Display, 7.62 mm, RHD; 10 Leads; Row Space 5.08 mm; Pitch 2.54 mm
footprint A (LED, 7-Segment Display, 7.62 mm, RHD; 10 Leads; Row Space 5.08 mm; Pitch 2.54 mm)
simulation model HDSP_A211 (SUBCKT)
pins: 1 A "Anode", 2 f "Cathode", 3 g "Cathode", 4 e "Cathode", 5 d "Cathode", 6 A "Anode", 7 DP "Cathode", 8 c "Cathode", 9 b "Cathode", 10 a "Cathode"

## Dpy Amber-CC
designator DS?
7.62 mm Black Surface Orange 7-Segment Display: CC, RH DP; Note: IF = 5 mA; Note: Pins 1 and 6 are redundant Cathodes.; PackageReference: A; PackageDescription: LED, 7-Segment Display, 7.62 mm, RHD; 10 Leads; Row Space 5.08 mm; Pitch 2.54 mm
footprint A (LED, 7-Segment Display, 7.62 mm, RHD; 10 Leads; Row Space 5.08 mm; Pitch 2.54 mm)
simulation model HDSP_A213 (SUBCKT)
pins: 1 K "Cathode", 2 f "Anode", 3 g "Anode", 4 e "Anode", 5 d "Anode", 6 K "Cathode", 7 DP "Anode", 8 c "Anode", 9 b "Anode", 10 a "Anode"

## Dpy Blue-CA
designator DS?
14.2 mm General Purpose Blue 7-Segment Display: CA, RH DP, Gray Surface; Note: IF = 10 mA; PackageReference: H; PackageDescription: LED, 7-Segment Display, 14.2 mm, RHD; 10 Leads; Row Space 15.24 mm; Pitch 2.54 mm
footprint H (LED, 7-Segment Display, 14.2 mm, RHD; 10 Leads; Row Space 15.24 mm; Pitch 2.54 mm)
simulation model HDSP_501B (SUBCKT)
pins: 1 e "Cathode", 2 d "Cathode", 3 A "Common Anode", 4 c "Cathode", 5 DP "Cathode", 6 b "Cathode", 7 a "Cathode", 8 A "Common Anode", 9 f "Cathode", 10 g "Cathode"

## Dpy Blue-CC
designator DS?
14.2 mm General Purpose Blue 7-Segment Display: CC, RH DP, Gray Surface; Note: IF = 10 mA; PackageReference: H; PackageDescription: LED, 7-Segment Display, 14.2 mm, RHD; 10 Leads; Row Space 15.24 mm; Pitch 2.54 mm
footprint H (LED, 7-Segment Display, 14.2 mm, RHD; 10 Leads; Row Space 15.24 mm; Pitch 2.54 mm)
simulation model HDSP_503B (SUBCKT)
pins: 1 e "Anode", 2 d "Anode", 3 K "Common Cathode", 4 c "Anode", 5 DP "Anode", 6 b "Anode", 7 a "Anode", 8 K "Common Cathode", 9 f "Anode", 10 g "Anode"

## Dpy Green-CA
designator DS?
7.62 mm Black Surface Green 7-Segment Display: CA, RH DP; Note: IF = 10 mA; Note: Pins 1 and 6 are redundant Anodes.; PackageReference: A; PackageDescription: LED, 7-Segment Display, 7.62 mm, RHD; 10 Leads; Row Space 5.08 mm; Pitch 2.54 mm
footprint A (LED, 7-Segment Display, 7.62 mm, RHD; 10 Leads; Row Space 5.08 mm; Pitch 2.54 mm)
simulation model HDSP_A511 (SUBCKT)
pins: 1 A "Anode", 2 f "Cathode", 3 g "Cathode", 4 e "Cathode", 5 d "Cathode", 6 A "Anode", 7 DP "Cathode", 8 c "Cathode", 9 b "Cathode", 10 a "Cathode"

## Dpy Green-CC
designator DS?
7.62 mm Black Surface Green 7-Segment Display: CC, RH DP; Note: IF = 10 mA; Note: Pins 1 and 6 are redundant Cathodes.; PackageReference: A; PackageDescription: LED, 7-Segment Display, 7.62 mm, RHD; 10 Leads; Row Space 5.08 mm; Pitch 2.54 mm
footprint A (LED, 7-Segment Display, 7.62 mm, RHD; 10 Leads; Row Space 5.08 mm; Pitch 2.54 mm)
simulation model HDSP_A513 (SUBCKT)
pins: 1 K "Cathode", 2 f "Anode", 3 g "Anode", 4 e "Anode", 5 d "Anode", 6 K "Cathode", 7 DP "Anode", 8 c "Anode", 9 b "Anode", 10 a "Anode"

## Dpy Overflow
designator DS?
7.62 mm HER 7-Segment Display: Universal ±1 Overflow, RH DP; Note: IF = 5 mA; Note: No pins are present in positions 2 and 9.; PackageReference: A-12; PackageDescription: LED, Universal ±1 Overflow, 7.62 mm, RHD; 14 Leads (2 Absent); Row Space 7.62 mm; Pitch 2.54 mm
footprint A-12 (LED, Universal ±1 Overflow, 7.62 mm, RHD; 14 Leads (2 Absent); Row Space 7.62 mm; Pitch 2.54 mm)
simulation model 5082_7616 (SUBCKT)
pins: 1 d "Anode", 3 d "Cathode", 4 c "Cathode", 5 e "Cathode", 6 e "Anode", 7 c "Anode", 8 DP "Anode", 10 DP "Cathode", 11 b "Cathode", 12 a "Cathode", 13 a "Anode", 14 b "Anode"

## Dpy Red-CA
designator DS?
Dual CA 7-segment Display; Note: IF = 5 mA; Note: Pins 1 and 6 are redundant Anodes.; PackageReference: A; PackageDescription: LED, 7-Segment Display, 7.62 mm, RHD; 10 Leads; Row Space 5.08 mm; Pitch 2.54 mm
simulation model HDSP_A211 (SUBCKT)
footprint 7-SEGMENT (DUAL 7-SEGMENT)
pins: 1 e1 "Cathode", 2 d1 "Cathode", 3 c1 "Cathode", 4 DP1 "Cathode", 5 e2 "Cathode", 6 d2 "Cathode", 7 g2 "Cathode", 8 c2 "Cathode", 9 DP2 "Cathode", 10 b2 "Cathode", 11 a2 "Cathode", 12 f2 "Cathode", 13 CA2 "Anode", 14 CA1 "Anode", 15 b1 "Cathode", 16 a1 "Cathode", 17 g1 "Cathode", 18 f1 "Cathode"

## Dpy Red-CC
designator DS?
7.62 mm Black Surface HER 7-Segment Display: CC, RH DP; Note: IF = 5 mA; Note: Pins 1 and 6 are redundant Cathodes.; PackageReference: A; PackageDescription: LED, 7-Segment Display, 7.62 mm, RHD; 10 Leads; Row Space 5.08 mm; Pitch 2.54 mm
footprint A (LED, 7-Segment Display, 7.62 mm, RHD; 10 Leads; Row Space 5.08 mm; Pitch 2.54 mm)
simulation model HDSP_A213 (SUBCKT)
pins: 1 K "Cathode", 2 f "Anode", 3 g "Anode", 4 e "Anode", 5 d "Anode", 6 K "Cathode", 7 DP "Anode", 8 c "Anode", 9 b "Anode", 10 a "Anode"

## Dpy Yellow-CA
designator DS?
7.6 mm Micro Bright Yellow 7-Segment Display: CA, RH DP; Note: IF = 5 mA; Note: Pins 1 and 6 are redundant Anodes.; PackageReference: A; PackageDescription: LED, 7-Segment Display, 7.62 mm, RHD; 10 Leads; Row Space 5.08 mm; Pitch 2.54 mm
footprint A (LED, 7-Segment Display, 7.62 mm, RHD; 10 Leads; Row Space 5.08 mm; Pitch 2.54 mm)
simulation model HDSP_7401 (SUBCKT)
pins: 1 A "Anode", 2 f "Cathode", 3 g "Cathode", 4 e "Cathode", 5 d "Cathode", 6 A "Anode", 7 DP "Cathode", 8 c "Cathode", 9 b "Cathode", 10 a "Cathode"

## Dpy Yellow-CC
designator DS?
7.6 mm Micro Bright Yellow 7-Segment Display: CC, RH DP; Note: IF = 5 mA; Note: Pins 1 and 6 are redundant Cathodes.; PackageReference: A; PackageDescription: LED, 7-Segment Display, 7.62 mm, RHD; 10 Leads; Row Space 5.08 mm; Pitch 2.54 mm
footprint A (LED, 7-Segment Display, 7.62 mm, RHD; 10 Leads; Row Space 5.08 mm; Pitch 2.54 mm)
simulation model HDSP_7403 (SUBCKT)
pins: 1 K "Cathode", 2 f "Anode", 3 g "Anode", 4 e "Anode", 5 d "Anode", 6 K "Cathode", 7 DP "Anode", 8 c "Anode", 9 b "Anode", 10 a "Anode"

## Dual-optocoupler
designator U?, comment SFH6325
footprint DIP-8_SMD (DIP; 8 Leads; Row Spacing 7.62 mm; Pitch 2.54 mm)
pins: 1 A1, 2 C1, 3 A2, 4 C2, 5 GND, 6 C2, 7 C1, 8 VCC

## Ferrite  600@100M
designator L?
FERRITE BEAD 600 OHM 0603 1LN; Value: 600@100M; PackageReference: AXIAL-1.0; PackageDescription: Axial Device, Thru-Hole; 2 Leads; 1.0 in Pin Spacing; Digikey Part Number: 732-1593-1-ND
footprint 0805 (Chip Resistor, Body 2.0x1.2mm, IPC Low Density)
pins: 1, 2

## FTDI
designator U?, comment FT260Q
footprint QFN5X5-28_2
pins: 1 DEBUGGER, 2 STEST_RSTN, 3 RESETN, 4 DCNF0, 5 DCNF1, 6 VCCIO, 7 DIO0, 8 DIO1, 9 DIO2, 10 DIO3/RXD, 11 DIO4/TXD, 12 DIO5, 13 DIO6, 14 DIO7, 15 DIO8, 16 DIO9, 17 DIO10, 18 DIO11, 19 GND (power), 20 DM, 21 DP, 22 VOUT3V3 (power), 23 VCCIN (power), 24 AGND (power), 25 FSOURCE, 26 VBUS_DET, 27 DIO12, 28 DIO13, 29 GND (power) "PAD"

## Fuse 1
designator F?
Fuse; PackageReference: PIN-W2/E2.8; PackageDescription: Thru-Hole; 2 Leads
footprint PIN-W2/E2.8 (Thru-Hole; 2 Leads)
simulation model FUSE (Spice Subcircuit)
pins: 1, 2

## Fuse 2
designator F?
Fuse; PackageReference: PIN-W2/E2.8; PackageDescription: Thru-Hole; 2 Leads
footprint PIN-W2/E2.8 (Thru-Hole; 2 Leads)
simulation model FUSE (Spice Subcircuit)
pins: 1, 2

## Fuse Thermal
designator F?
Thermal Fuse; PackageReference: PIN-W2/E2.8; PackageDescription: Thru-Hole; 2 Leads
footprint PIN-W2/E2.8 (Thru-Hole; 2 Leads)
pins: 1, 2

## HX711
designator U?
pins: 1 VSUP, 2 BASE, 3 AVDD, 4 VFB, 5 AGND, 6 VBG, 7 INNA, 8 INPA, 9 INNB, 10 INPB, 11 PD_SCK, 12 DOUT, 13 XO, 14 XI, 15 RATE, 16 DVDD

## IFX91041
designator U?
footprint SOIC-8 (SOIC, 8-Leads, Body 4.9x3.9mm, Pitch 1.27mm, IPC Medium Density)
pins: 1 SYNC, 2 GND, 3 COMP, 4 FB, 5 BDS, 6 BUO, 7 EN, 8 VS, 9 PAD

## IGBT-N
designator Q?
Insulated Gate Bipolar Transistor (N-Channel); PackageReference: TO-247; PackageDescription: SIP with Mounting Hole; 3 Leads; Body 20 x 15.6 x 5 mm (typ); Pitch 5.45 mm
footprint TO-247 (SIP with Mounting Hole; 3 Leads; Body 20 x 15.6 x 5 mm (typ); Pitch 5.45 mm)
simulation model IRGPC40U (Spice Subcircuit)
pins: 1 G, 2 C, 3 E

## IGBT-P
designator Q?
PNP Bipolar Junction Transistor; PackageReference: TO-264-AA
footprint TO-264-AA (SIP with Mounting Hole; 3 Leads; Body 26 x 20 x 5 mm (typ); Pitch 5.45 mm)
simulation model PIGBT (Spice Subcircuit)
pins: 1 C, 2 G, 3 E

## Inductor
designator L?  value 10mH
Inductor; PackageReference: 0402-A; PackageDescription: Chip Inductor
footprint 0402-A (Chip Inductor, Body 1.0x0.5mm, IPC High Density)
footprint INDC1608L (Chip Inductor, Body 1.6x0.8mm, IPC High Density)
footprint 2029 (Chip Inductor, Body 2.0x1.2mm, IPC High Density)
footprint 0603 (Chip Inductor, Body 0.6x0.3mm, IPC High Density)
footprint INDC3216 (Chip Inductor, Body 3.2x1.6mm, IPC High Density)
footprint INDC4532 (Chip Inductor, Body 4.5x3.2mm, IPC High Density)
simulation model INDUCTOR (Inductor)
signal-integrity model Inductor
footprint IND1210 (Chip Inductor, Body 3.05x3.18mm)
pins: 1, 2

## Inductor Adj
designator L?  value 10mH
Adjustable Inductor; PackageReference: AXIAL-0.8; PackageDescription: Axial Device, Thru-Hole; 2 Leads; 0.8 in Pin Spacing
footprint AXIAL-0.8 (Axial Device, Thru-Hole; 2 Leads; 0.8 in Pin Spacing)
simulation model INDUCTOR (Inductor)
signal-integrity model Inductor Adj
pins: 1, 2

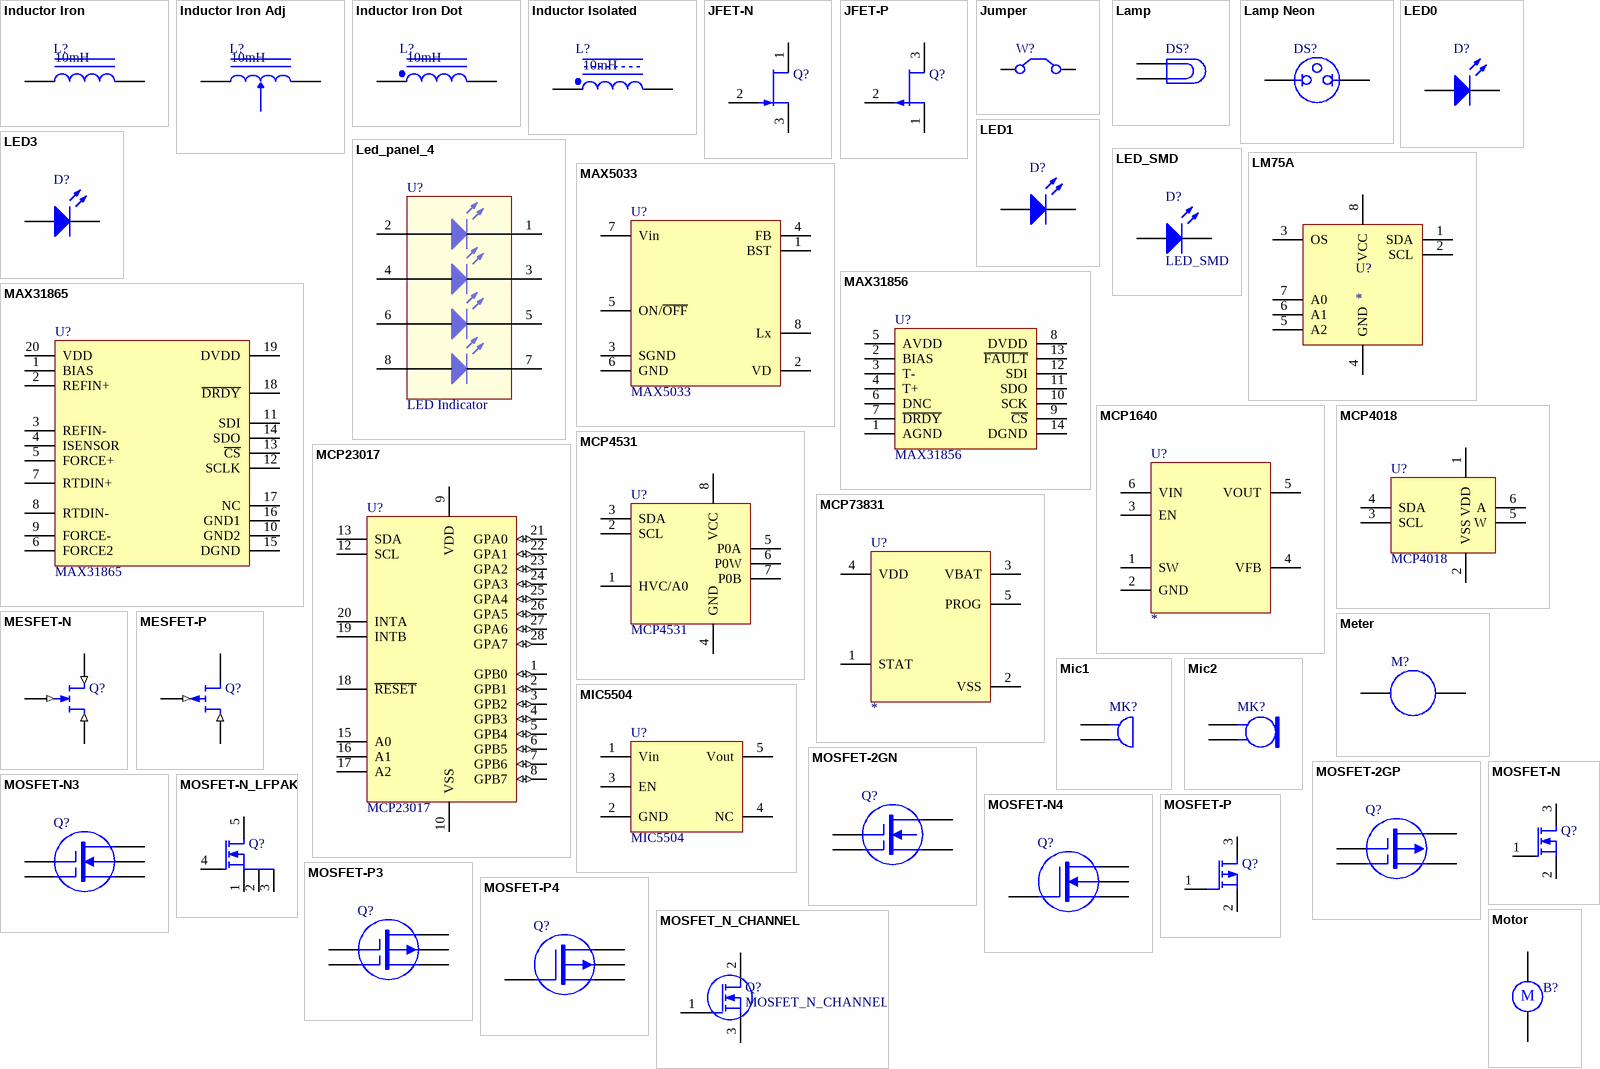
[diagram p3: symbols Inductor Iron to Motor]

## Inductor Iron
designator L?  value 10mH
Magnetic-Core Inductor; PackageReference: AXIAL-0.9; PackageDescription: Axial Device, Thru-Hole; 2 Leads; 0.9 in Pin Spacing
footprint AXIAL-0.9 (Axial Device, Thru-Hole; 2 Leads; 0.9 in Pin Spacing)
simulation model INDUCTOR (Inductor)
signal-integrity model Inductor Iron
pins: 1, 2

## Inductor Iron Adj
designator L?  value 10mH
Adjustable Magnetic-Core Inductor; PackageReference: AXIAL-1.0; PackageDescription: Axial Device, Thru-Hole; 2 Leads; 1.0 in Pin Spacing
footprint AXIAL-1.0 (Axial Device, Thru-Hole; 2 Leads; 1.0 in Pin Spacing)
simulation model INDUCTOR (Inductor)
signal-integrity model Inductor Iron Adj
pins: 1, 2

## Inductor Iron Dot
designator L?  value 10mH
Magnetic-Core Inductor with Winding Polarity Marking; PackageReference: DIODE_SMC; PackageDescription: Diode; 2 Leads
footprint DIODE_SMC (Diode; 2 Leads)
signal-integrity model Inductor Iron Dot
pins: 1, 2

## Inductor Isolated
designator L?  value 10mH
Isolated Inductor; PackageReference: 425; PackageDescription: SOD-123; 2 Leads; Body 2.7 x 1.6 mm, (LxW)
footprint 425 (SOD-123; 2 Leads; Body 2.7 x 1.6 mm, (LxW))
signal-integrity model Inductor Isolated
pins: 1, 2

## JFET-N
designator Q?
N-Channel JFET; PackageReference: TO-254-AA
footprint TO-254-AA (TO, Thru-Hole, Vertical, Heatsink Mounted; 3 In-Line Leads; Pitch 3.81 mm)
simulation model NJFET
pins: 1 D, 2 G, 3 S

## JFET-P
designator Q?
P-Channel JFET; PackageReference: TO-18A; PackageDescription: SC-89; 3 Flat Leads; Body 1.6 x 1.6 x 0.7 mm, inc leads (LxWxH typ)
footprint TO-18A (SC-89; 3 Flat Leads; Body 1.6 x 1.6 x 0.7 mm, inc leads (LxWxH typ))
simulation model PJFET
pins: 1 D, 2 G, 3 S

## Jumper
designator W?
Jumper Wire; PackageReference: RAD-0.2; PackageDescription: Radial Cap, Thru-Hole; 2 Leads; 0.2 in Pin Spacing
footprint RAD-0.2 (Radial Cap, Thru-Hole; 2 Leads; 0.2 in Pin Spacing)
pins: 1 C1, 2 C2

## Lamp
designator DS?
Incandescent Bulb; PackageReference: PIN2
footprint PIN2 (Incandescent Bulb; 2 Leads)
pins: 1, 2

## Lamp Neon
designator DS?
Neon Lamp; PackageReference: PIN2
footprint PIN2 (Neon Lamp; 2 Leads)
pins: 1, 2

## LED0
designator D?
Typical INFRARED GaAs LED; PackageReference: LED-0; PackageDescription: LED; 2 Leads
footprint LED-0 (LED; 2 Leads)
simulation model LED0 (Diode)
pins: 1 A, 2 K

## LED1
designator D?
Typical RED GaAs LED; PackageReference: LED-1; PackageDescription: LED; 2 Leads
footprint LED-1 (LED; 2 Leads)
simulation model LED1 (Diode)
pins: 1 A, 2 K

## LED3
designator D?
Typical BLUE SiC LED
footprint 3.5X2.8X1.9 (SM LED; 2 C-Bend Leads; Body 3.5 x 2.8 x 1.9 mm, inc leads (LxWxH typ))
simulation model LED3 (Diode)
signal-integrity model LED
pins: 1 A, 2 K

## Led_panel_4
designator U?, comment LED Indicator
pins: 1 K1, 2 A1, 3 K2, 4 A2, 5 K3, 6 A3, 7 K4, 8 A4

## LED_SMD
designator D?
LED RED CLEAR 0603 SMD; Manufacturer Part Number: LTST-C191KRKT; PackageReference: 0603 (1608 Metric); PackageDescription: 1.60mm L x 0.80mm W; Digikey Part Number: 160-1447-1-ND; Value: RED
footprint 3.2X1.6X1.1 (SMT LED; 2 Flat Leads)
simulation model LED2 (Diode)
footprint 0603_LED (LED)
pins: 1 A, 2 K

## LM75A
designator U?
footprint TSSOP_8
footprint SO8_N (SOIC, 8-Leads, Body 4.9x3.9mm, Pitch 1.27mm, IPC Medium Density)
pins: 1 SDA, 2 SCL, 3 OS "Overtemp Shutdown output; open-drain", 4 GND (power), 5 A2, 6 A1, 7 A0, 8 VCC (power)

## MAX5033
designator U?
footprint SOIC-8 (SOIC, 8-Leads, Body 4.9x3.9mm, Pitch 1.27mm, IPC Medium Density)
pins: 1 BST, 2 VD, 3 SGND, 4 FB, 5 ON/~{OFF}, 6 GND, 7 Vin, 8 Lx

## MAX31856
designator U?
pins: 1 AGND, 2 BIAS, 3 T-, 4 T+, 5 AVDD, 6 DNC, 7 ~{DRDY}, 8 DVDD, 9 ~{CS}, 10 SCK, 11 SDO, 12 SDI, 13 ~{FAULT}, 14 DGND

## MAX31865
designator U?
pins: 1 BIAS, 2 REFIN+, 3 REFIN-, 4 ISENSOR, 5 FORCE+, 6 FORCE2, 7 RTDIN+, 8 RTDIN-, 9 FORCE-, 10 GND2, 11 SDI, 12 SCLK, 13 ~{CS}, 14 SDO, 15 DGND, 16 GND1, 17 NC, 18 ~{DRDY}, 19 DVDD, 20 VDD

## MCP1640
designator U?
footprint SOT23-6_OP_AMP (SOT23, 6-Leads, Body 2.9x1.6mm, Pitch 0.95mm, Lead Span 2.7mm, IPC Medium Density)
pins: 1 SW, 2 GND, 3 EN, 4 VFB, 5 VOUT, 6 VIN

## MCP4018
designator U?
footprint SC70
pins: 1 VDD (power), 2 VSS (power), 3 SCL, 4 SDA, 5 W, 6 A

## MCP4531
designator U?
7/8-Bit Single/Dual I2C Digital POT with  Volatile Memory
footprint TSSOP_8
pins: 1 HVC/A0 "Overtemp Shutdown output; open-drain", 2 SCL, 3 SDA, 4 GND (power), 5 P0A, 6 P0W, 7 P0B, 8 VCC (power)

## MCP23017
designator U?
footprint SOIC28 (SOIC_28)
pins: 1 GPB0 (io), 2 GPB1 (io), 3 GPB2 (io), 4 GPB3 (io), 5 GPB4 (io), 6 GPB5 (io), 7 GPB6 (io), 8 GPB7 (io), 9 VDD (power), 10 VSS (power), 12 SCL, 13 SDA, 15 A0, 16 A1, 17 A2, 18 ~{RESET}, 19 INTB, 20 INTA, 21 GPA0 (io), 22 GPA1 (io), 23 GPA2 (io), 24 GPA3 (io), 25 GPA4 (io), 26 GPA5 (io), 27 GPA6 (io), 28 GPA7 (io)

## MCP73831
designator U?
footprint SOT23-5 (SOT23, 5-Leads)
pins: 1 STAT, 2 VSS, 3 VBAT, 4 VDD, 5 PROG

## MESFET-N
designator Q?
N-Channel MESFET; PackageReference: TO-18; PackageDescription: Can; 3 Leads; Pin Circle Dia. 2.54 mm; Lead Dia. 0.48 mm (max)
footprint TO-18 (Can; 3 Leads; Pin Circle Dia. 2.54 mm; Lead Dia. 0.48 mm (max))
simulation model NMESFET (MESFET-N)
pins: 1 D (in), 2 G (in), 3 S (in)

## MESFET-P
designator Q?
P-Channel MESFET; PackageReference: TO-18; PackageDescription: Can; 3 Leads; Pin Circle Dia. 2.54 mm; Lead Dia. 0.48 mm (max)
footprint TO-18 (Can; 3 Leads; Pin Circle Dia. 2.54 mm; Lead Dia. 0.48 mm (max))
simulation model PMESFET (MESFET-P)
pins: 1 D (in), 2 G (in), 3 S

## Meter
designator M?
Indicating Instrument; Note: Place a "letter" into the symbol to show the function of the meter or instrument; PackageReference: RAD-0.1; PackageDescription: Radial Cap, Thru-Hole; 2 Leads; 0.1 in Pin Spacing
footprint RAD-0.1 (Radial Cap, Thru-Hole; 2 Leads; 0.1 in Pin Spacing)
pins: 1, 2

## Mic1
designator MK?
Microphone; PackageReference: PIN2
footprint PIN2 (Microphone; 2 Leads)
pins: 1, 2

## Mic2
designator MK?
Microphone; PackageReference: PIN2
footprint PIN2 (Microphone; 2 Leads)
pins: 1, 2

## MIC5504
designator U?
footprint SOT23-5 (SOT23, 5-Leads)
pins: 1 Vin, 2 GND, 3 EN, 4 NC, 5 Vout

## MOSFET-2GN
designator Q?
Two-Gate, N-Channel MOSFET; PackageReference: T05A; PackageDescription: TO-220, Molded, 5 Lead, Straight
footprint T05A (TO, Thru-Hole, Vertical, Heatsink Mounted; 5 In-Line Leads; Pitch 1.70 mm)
pins: 1 G1, 2 G2, 3 D, 4 S